# Altium footprint library ADuM4121ARIZ_Driver.PcbLib: 3 footprints
Each footprint in its own frame and in the unit in brackets; x right, y up, seen from the top. Pads: shape width x height; smd on the part's side, far side on the other; paste and mask are expansions set on the pad; w line width, h text height; cw(c..) or ccw(c..) is an arc to the next point about the centre after c.
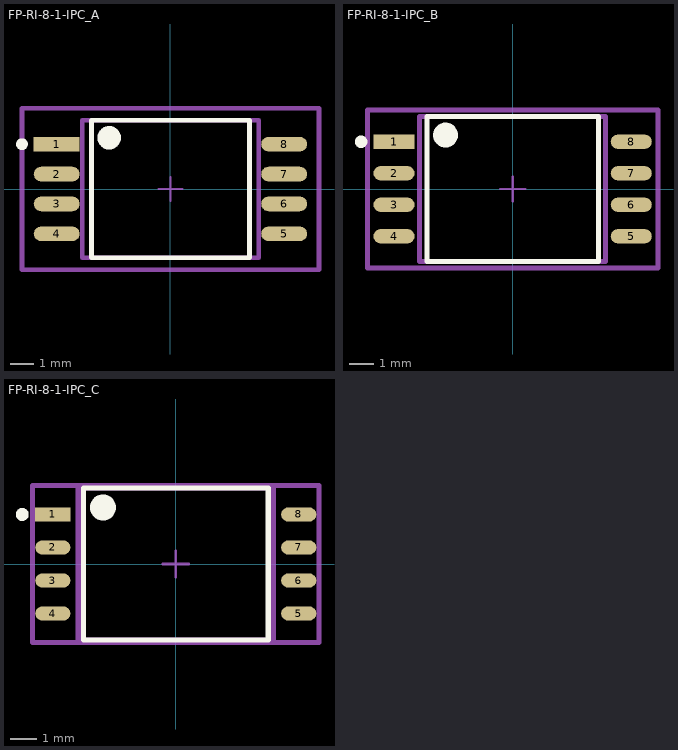
[diagram p0: the footprints below, top view; thin cyan lines are the x and y axes]

## FP-RI-8-1-IPC_A [mil]
pads (8):
  rect 76.97x24.49 smd paste+0 mask+0: 1(-190.18,75)
  rrect100% 76.97x24.49 smd paste+0 mask+0: 2(-190.18,25) 3(-190.18,-25) 4(-190.18,-75) 5(190.18,-75) 6(190.18,-25) 7(190.18,25) 8(190.18,75)
Top Overlay:
  circle w19.68: c-102.48,85.63 r9.84
  circle w9.84: c-248.35,75 r4.92
  lines w7.87: -132.01,-115.16 132.01,-115.16 132.01,115.16 -132.01,115.16 -132.01,-115.16
Top Assembly:
  lines w7.87: -248.35,-134.84 248.35,-134.84 248.35,134.84 -248.35,134.84 -248.35,-134.84
  text ".Designator" at 0,7.39 h39.37
Top 3D Body:
  lines w7.87: -147.64,-115.16 147.64,-115.16 147.64,115.16 -147.64,115.16 -147.64,-115.16
Top Courtyard:
  lines w7.87: -248.35,-134.84 248.35,-134.84 248.35,134.84 -248.35,134.84 -248.35,-134.84
Top Component Center:
  lines w3.94: -19.68,0 19.68,0 ; 0,-19.68 0,19.68
3D body "IC_Analog_Devices_ADUM6028-3BRIZ_eec.STEP": height 10, standoff 0, extent -248.35,-134.84 248.35,134.84

## FP-RI-8-1-IPC_B [mil]
pads (8):
  rect 65.16x22.92 smd paste+0 mask+0: 1(-188.21,75)
  rrect100% 65.16x22.92 smd paste+0 mask+0: 2(-188.21,25) 3(-188.21,-25) 4(-188.21,-75) 5(188.21,-75) 6(188.21,-25) 7(188.21,25) 8(188.21,75)
Top Overlay:
  circle w19.68: c-106.42,85.63 r9.84
  circle w9.84: c-240.48,75 r4.92
  lines w7.87: -135.95,-115.16 135.95,-115.16 135.95,115.16 -135.95,115.16 -135.95,-115.16
Top Assembly:
  lines w7.87: -230.63,-125 230.63,-125 230.63,125 -230.63,125 -230.63,-125
  text ".Designator" at 0,7.39 h39.37
Top 3D Body:
  lines w7.87: -147.64,-115.16 147.64,-115.16 147.64,115.16 -147.64,115.16 -147.64,-115.16
Top Courtyard:
  lines w7.87: -230.63,-125 230.63,-125 230.63,125 -230.63,125 -230.63,-125
Top Component Center:
  lines w3.94: -19.68,0 19.68,0 ; 0,-19.68 0,19.68
3D body "IC_Analog_Devices_ADUM6028-3BRIZ_eec.STEP": height 10, standoff 0, extent -230.63,-125 230.63,125

## FP-RI-8-1-IPC_C [mil]
pads (8):
  rect 53.35x21.34 smd paste+0 mask+0: 1(-186.24,75)
  rrect100% 53.35x21.34 smd paste+0 mask+0: 2(-186.24,25) 3(-186.24,-25) 4(-186.24,-75) 5(186.24,-75) 6(186.24,-25) 7(186.24,25) 8(186.24,75)
Top Overlay:
  circle w19.68: c-110.36,85.63 r9.84
  circle w9.84: c-232.6,75 r4.92
  lines w7.87: -139.88,-115.16 139.88,-115.16 139.88,115.16 -139.88,115.16 -139.88,-115.16
Top Assembly:
  lines w7.87: -216.85,-119.09 216.85,-119.09 216.85,119.09 -216.85,119.09 -216.85,-119.09
  text ".Designator" at 0,7.39 h39.37
Top 3D Body:
  lines w7.87: -147.64,-115.16 147.64,-115.16 147.64,115.16 -147.64,115.16 -147.64,-115.16
Top Courtyard:
  lines w7.87: -216.85,-119.09 216.85,-119.09 216.85,119.09 -216.85,119.09 -216.85,-119.09
Top Component Center:
  lines w3.94: -19.68,0 19.68,0 ; 0,-19.68 0,19.68
3D body "IC_Analog_Devices_ADUM6028-3BRIZ_eec.STEP": height 10, standoff 0, extent -216.85,-119.09 216.85,119.09